# Altium schematic symbol library CM3Board_V1I2.SCHLIB: 170 symbols (part 3 of 5)
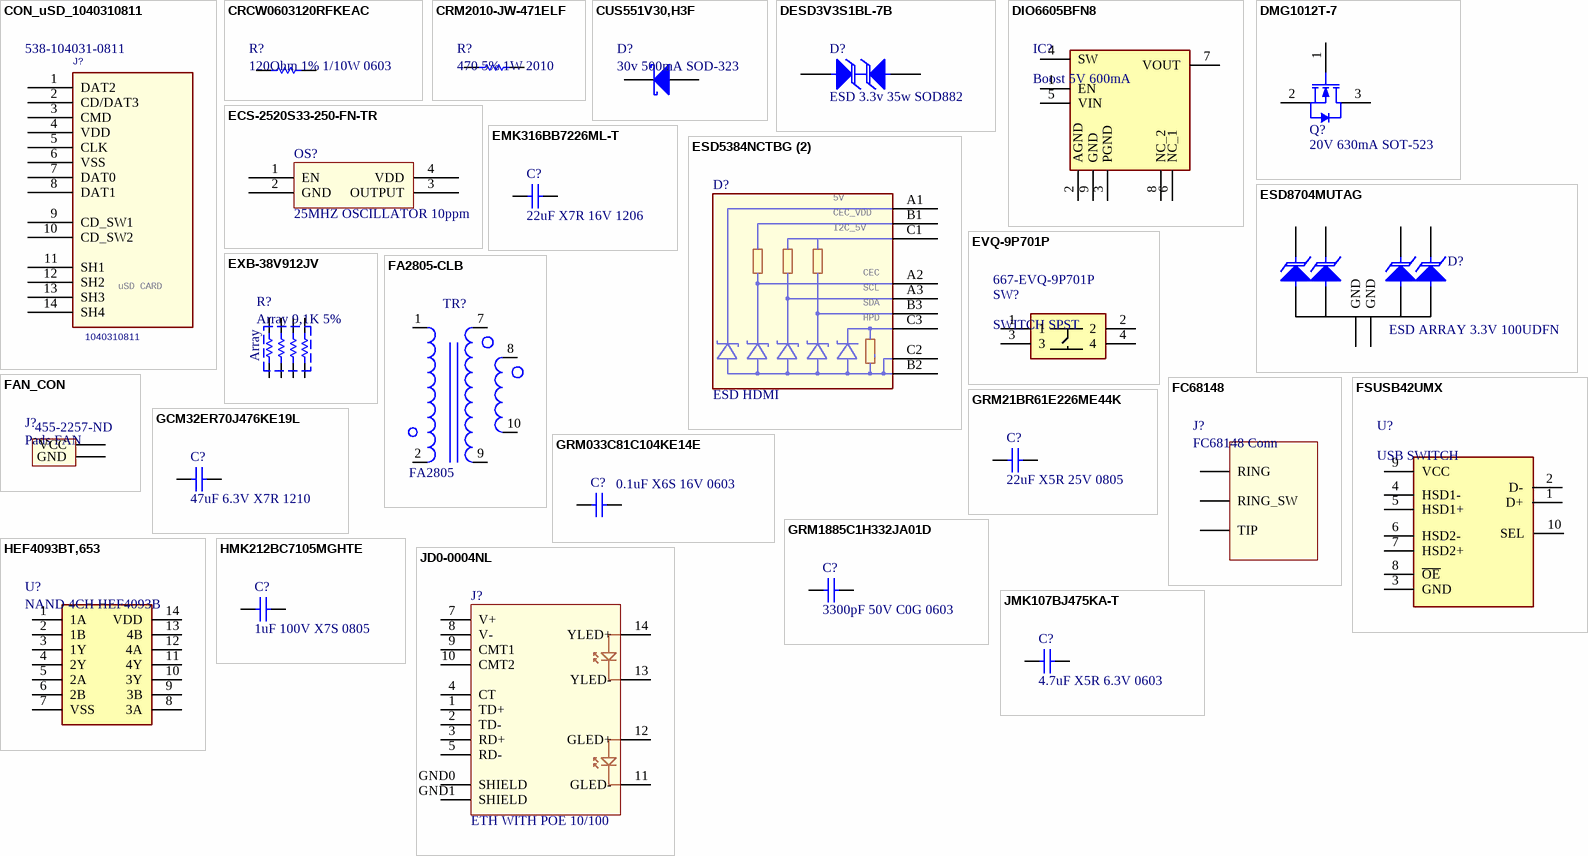
[diagram p7: symbols CON_uSD_1040310811 to JMK107BJ475KA-T]

## HEF4093BT,653
designator U?, comment NAND 4CH HEF4093B
IC GATE NAND 4CH 2-INP 14-SO; Manufacturer: NXP Semiconductors; Manufacturer Part Number: HEF4093BT,653; Output Current: 10mA; Min Supply Voltage: 3V; Max Supply Voltage: 15V; Propagation Delay: 185ns; High Level Output Current: -4.2mA; Low Level Output Current: 4.2mA; Number of Gates: 4; Number of Outputs: 1; Number of Inputs: 2; Quiescent Current: 1uA; Turn-On Delay Time: 80ns; Number of Input Lines: 8; Supplier 1: Mouser; RoHS: Yes; Stock 1: 16477; Pricing 1: 1 = 0,390000, 10 = 0,298000, 50 = 0,298000, 100 = 0,162000, 1000 = 0,121000, 10000 = 0,098000 (USD); Mount: Surface Mount; Case/Package: SO; Number of Pins: 14; Weight: 0.01lb; Min Operating Temperature: -40°C; Max Operating Temperature: 125°C; Logic Function: NAND; Packaging: Tape and Reel; Number of Elements: 4; Voltage: 15V; Package Quantity: 2500; Number of Circuits: 4; Number of Output Lines: 4; Length: 0.5inch; Height: 0.25inch; Width: 0.25inch; Radiation Hardening: No; Lead Free: Lead Free; REACH SVHC: No SVHC; ComponentLink1URL: https://datasheet.ciiva.com/1862/hef4093b-1862960.pdf?src-supplier=Digi-Key; ComponentLink1Description: https://datasheet.ciiva.com/1862/hef4093b-1862960.pdf?src-supplier=Digi-Key; ComponentLink2URL: https://datasheet.ciiva.com/22780/1695220-22780196.pdf?src-supplier=Farnell; ComponentLink2Description: https://datasheet.ciiva.com/22780/1695220-22780196.pdf?src-supplier=Farnell; ComponentLink3URL: https://datasheet.ciiva.com/46430/1760750-46430856.pdf?src-supplier=Element14; ComponentLink3Description: https://datasheet.ciiva.com/46430/1760750-46430856.pdf?src-supplier=Element14; ComponentLink4URL: https://datasheet.ciiva.com/15221/getdatasheetpartid-204086-15221739.pdf?src-supplier=Verical; ComponentLink4Description: https://datasheet.ciiva.com/15221/getdatasheetpartid-204086-15221739.pdf?src-supplier=Verical; ComponentLink5URL: https://datasheet.ciiva.com/33725/1695220-33725499.pdf?src-supplier=Farnell; ComponentLink5Description: https://datasheet.ciiva.com/33725/1695220-33725499.pdf?src-supplier=Farnell; ComponentLink6URL: https://datasheet.ciiva.com/1862/hef4093b-1862956.pdf?src-supplier=Digi-Key; ComponentLink6Description: https://datasheet.ciiva.com/1862/hef4093b-1862956.pdf?src-supplier=Digi-Key; Supplier Part Number 1: 771-HEF4093BTD-T
footprint SOIC127P600X175-14N
pins: 1 1A, 2 1B, 3 1Y, 4 2Y, 5 2A, 6 2B, 7 VSS (power), 8 3A, 9 3B, 10 3Y, 11 4Y, 12 4A, 13 4B, 14 VDD (power)

## HMK212BC7105MGHTE
designator C?, comment 1uF 100V X7S 0805
Condensadores de cerámica multicapa (MLCC- SMD/SMT) 0805 100V 1uF 20% X7S; Manufacturer: Taiyo Yuden; Manufacturer Part Number: HMK212BC7105MGHTE; Supplier 1: Mouser; Stock 1: 2234; Pricing 1: 1=0.33, 10=0.219, 50=0.219, 100=0.169, 1000=0.127, 10000=0.097 (USD); Supplier Part Number 1: 963-HMK212BC7105MGHT
footprint C 0805/2012
pins: 1, 2

## JD0-0004NL
designator J?, comment ETH WITH POE 10/100
1 Port RJ45 Magjack Connector Through Hole 10/100 Base-TX; Manufacturer: Pulse Electronics; Manufacturer Part Number: JD0-0004NL; Number of Ports: 1; Shielding: Shielded; Direction: Down; Number of Cores per Jack: 5; Supplier 1: Mouser; Stock 1: 755; Pricing 1: 1=6.2, 10=5.17, 50=5.17, 100=3.99, 1000=3.64, 10000=3.64 (USD); Mount: Through Hole; Color: Green,Yellow; Contact Material: Copper Alloy; Contact Plating: Gold; Housing Material: Thermoplastic; Min Operating Temperature: 0°C; Max Operating Temperature: 70°C; Packaging: Tray; Connector Type: RJ45; Number of Rows: 1; Termination: Solder; Supplier Part Number 1: 673-JD0-0004NL
footprint RJ45_TRAFO_POE_LEDS
pins: 1 TD+, 2 TD-, 3 RD+, 4 CT, 5 RD-, 7 V+, 8 V-, 9 CMT1, 10 CMT2, 11 GLED-, 12 GLED+, 13 YLED-, 14 YLED+, GND0 SHIELD, GND1 SHIELD

## JMK107BJ475KA-T
designator C?, comment 4.7uF X5R 6.3V 0603
CAP CER 4.7UF 6.3V X5R 0603; Manufacturer: Taiyo Yuden; Manufacturer Part Number: JMK107BJ475KA-T; Tolerance: 10%; Supplier 1: Mouser; Stock 1: 11441; Pricing 1: 1=0.14, 10=0.048, 50=0.048, 100=0.033, 1000=0.022, 10000=0.022 (USD); Mount: Surface Mount; Case/Package: 0603; Case Code (Metric): 1608; Case Code (Imperial): 0603; Contact Plating: Nickel; Min Operating Temperature: -55°C; Max Operating Temperature: 85°C; Capacitance: 4.7uF; Packaging: Tape and Reel; Dielectric: X5R; Voltage Rating (DC): 6.3V; Package Quantity: 1; Voltage Rating: 6.3V; Termination: SMD/SMT; Composition: Ceramic; Length: 1.6mm; Height: 0.8mm; Width: 0.031inch; Depth: 0.8mm; Thickness: 0.035inch; Radiation Hardening: No; Lead Free: Lead Free; Halogen Free: Halogen Free; REACH SVHC: Unknown; ComponentLink1URL: https://www.yuden.co.jp/productdata/catalog/mlcc_all_e.pdf; ComponentLink1Description: https://www.yuden.co.jp/productdata/catalog/mlcc_all_e.pdf; ComponentLink2URL: https://www.verical.com/server-webapp/html/getDatasheet?partID=637447; ComponentLink2Description: https://www.verical.com/server-webapp/html/getDatasheet?partID=637447; ComponentLink3URL: http://www.onlinecomponents.com/productFiles/mf-TAI/52jmk107bj475ka-t.pdf; ComponentLink3Description: http://www.onlinecomponents.com/productFiles/mf-TAI/52jmk107bj475ka-t.pdf; ComponentLink4URL: http://www.farnell.com/datasheets/1481447.pdf; ComponentLink4Description: http://www.farnell.com/datasheets/1481447.pdf; ComponentLink5URL: http://www.mouser.com/ds/2/396/mlcc_all_e-541559.pdf; ComponentLink5Description: http://www.mouser.com/ds/2/396/mlcc_all_e-541559.pdf; Supplier Part Number 1: 963-JMK107BJ475KA-T
footprint C 0603/1608
pins: 1, 2

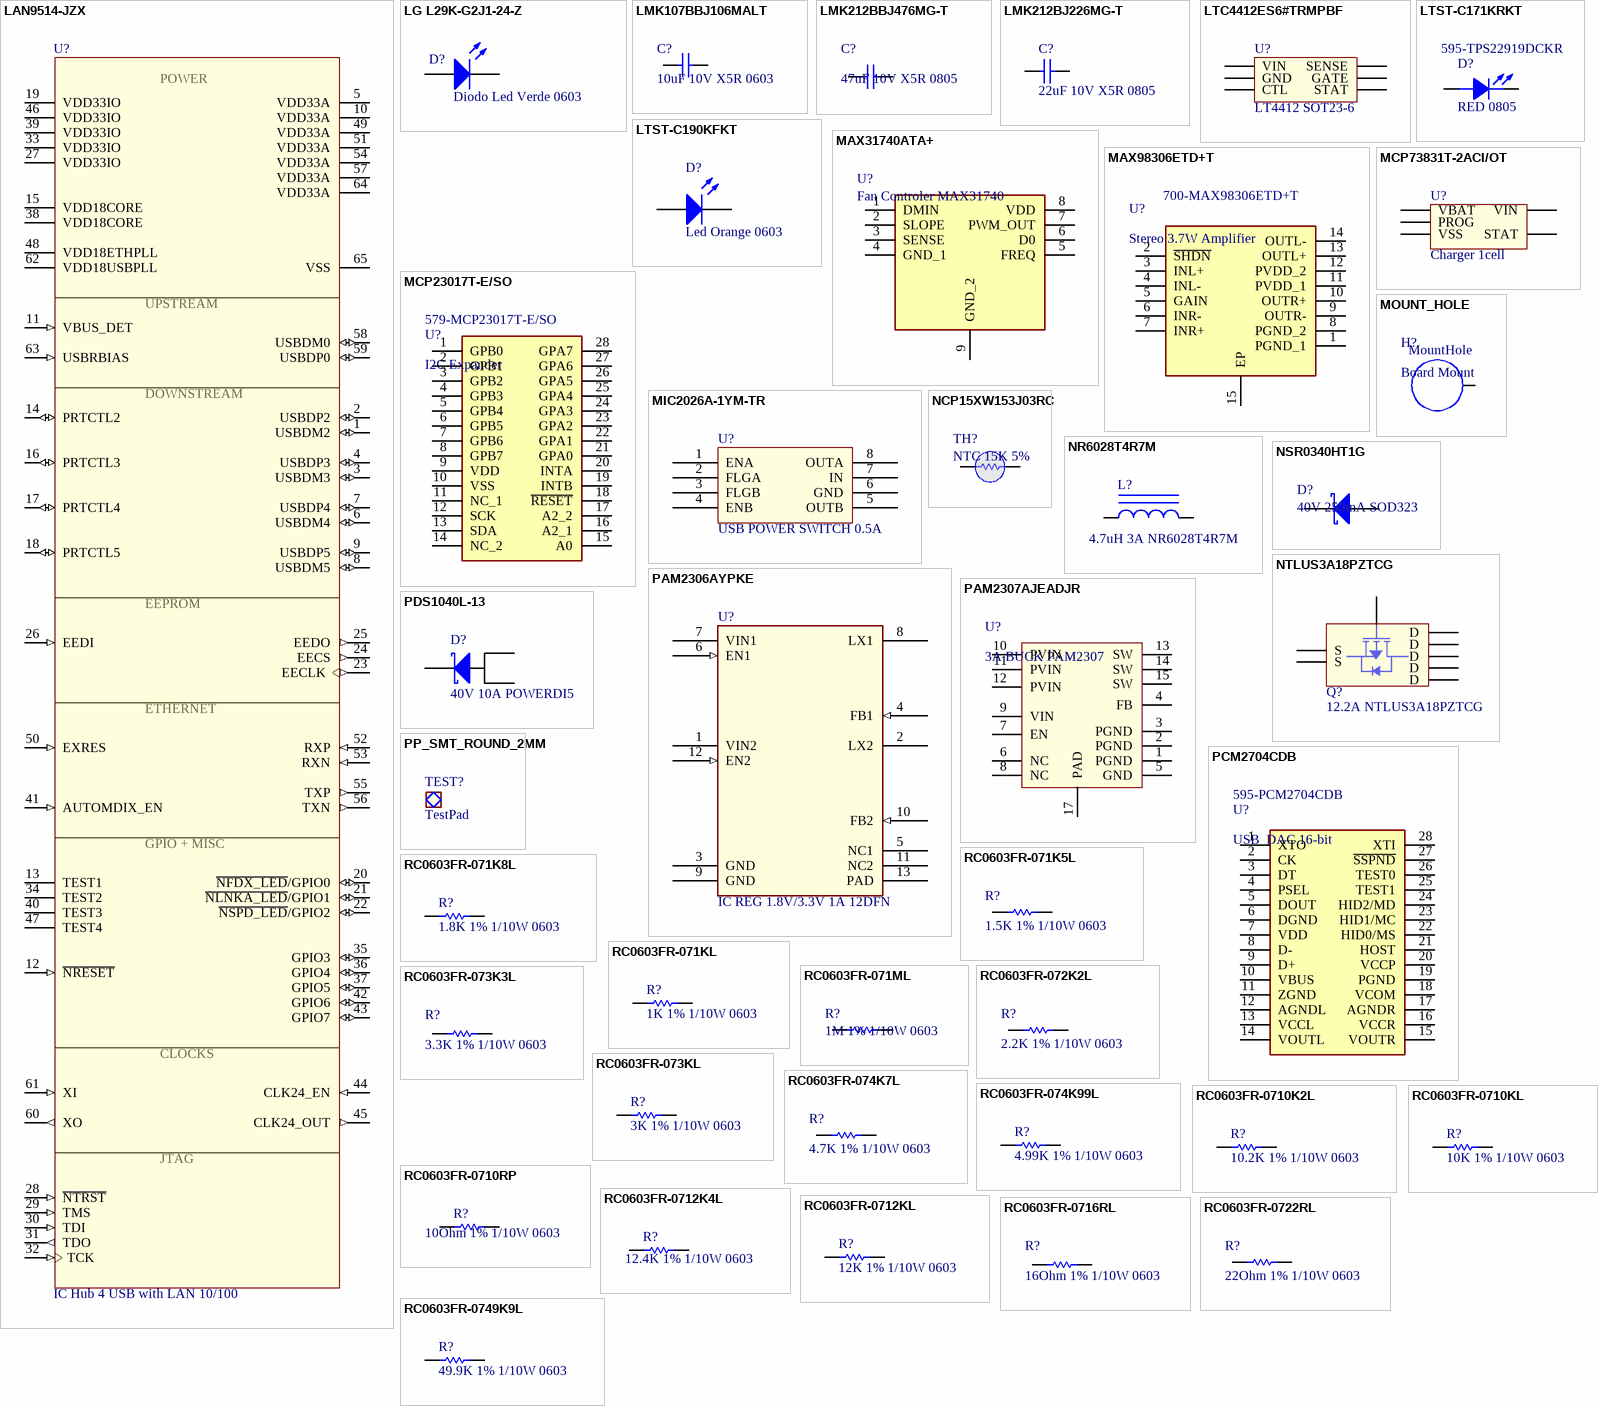
[diagram p3: symbols LAN9514-JZX to RC0603FR-0749K9L]

## LAN9514-JZX
designator U?, comment IC Hub 4 USB with LAN 10/100
USB Interface IC USB 4 Port Hub Int 10/100 Ethernet; Manufacturer: Microchip; Manufacturer Part Number: LAN9514-JZX; Operating Supply Current: 288mA; Min Supply Voltage: 3V; Max Supply Voltage: 3.6V; Operating Supply Voltage: 3.3V; Data Rate: 1.5Mbps; Max Power Dissipation: 951mW; Number of Ports: 5; Supplier 1: Mouser; Stock 1: 1024; Pricing 1: 1=5.7, 10=5.62, 50=4.75, 100=4.32, 1000=4.32, 10000=4.32 (USD); Case/Package: QFN; Number of Pins: 64; Weight: 0.007277oz; Contact Plating: Matte,Tin; Min Operating Temperature: 0°C; Max Operating Temperature: 70°C; Packaging: Tray; Package Quantity: 260; Interface: USB; Length: 9.1mm; Height: 0.95mm; Width: 9.1mm; Radiation Hardening: No; REACH SVHC: No SVHC; Lead Free: Lead Free; ComponentLink1URL: http://uk.rs-online.com/webdocs/11a5/0900766b811a553b.pdf; ComponentLink1Description: http://uk.rs-online.com/webdocs/11a5/0900766b811a553b.pdf; ComponentLink2URL: http://www.farnell.com/datasheets/1686386.pdf; ComponentLink2Description: http://www.farnell.com/datasheets/1686386.pdf; ComponentLink3URL: http://www1.futureelectronics.com/doc/MICROCHIP/LAN9514-JZX.pdf; ComponentLink3Description: http://www1.futureelectronics.com/doc/MICROCHIP/LAN9514-JZX.pdf; ComponentLink4URL: http://www.produktinfo.conrad.com/datenblaetter/650000-674999/651385-da-01-en-IC_E__CTRLR_LAN9514_JZX_QFN_64__9X9__MCP.pdf; ComponentLink4Description: http://www.produktinfo.conrad.com/datenblaetter/650000-674999/651385-da-01-en-IC_E__CTRLR_LAN9514_JZX_QFN_64__9X9__MCP.pdf; Supplier Part Number 1: 886-LAN9514-JZX
footprint QFN50P900X900X100-65N730X730
pins: 1 USBDM2 (io), 2 USBDP2 (io), 3 USBDM3 (io), 4 USBDP3 (io), 5 VDD33A (power), 6 USBDM4 (io), 7 USBDP4 (io), 8 USBDM5 (io), 9 USBDP5 (io), 10 VDD33A (power), 11 VBUS_DET (in), 12 ~{NRESET} (in), 13 TEST1, 14 PRTCTL2 (io), 15 VDD18CORE (power), 16 PRTCTL3 (io), 17 PRTCTL4 (io), 18 PRTCTL5 (io), 19 VDD33IO (power), 20 ~{NFDX_LED}/GPIO0 (io), 21 ~{NLNKA_LED}/GPIO1 (io), 22 ~{NSPD_LED}/GPIO2 (io), 23 EECLK (out), 24 EECS (out), 25 EEDO (out), 26 EEDI (in), 27 VDD33IO (power), 28 ~{NTRST} (in), 29 TMS (in), 30 TDI (in), 31 TDO (out), 32 TCK (in), 33 VDD33IO (power), 34 TEST2, 35 GPIO3 (io), 36 GPIO4 (io), 37 GPIO5 (io), 38 VDD18CORE (power), 39 VDD33IO (power), 40 TEST3, 41 AUTOMDIX_EN (in), 42 GPIO6 (io), 43 GPIO7 (io), 44 CLK24_EN (in), 45 CLK24_OUT (out), 46 VDD33IO (power), 47 TEST4, 48 VDD18ETHPLL (power), 49 VDD33A (power), 50 EXRES (in), 51 VDD33A (power), 52 RXP (in), 53 RXN (in), 54 VDD33A (power), 55 TXP (out), 56 TXN (out), 57 VDD33A (power), 58 USBDM0 (io), 59 USBDP0 (io), 60 XO (out), 61 XI (in), 62 VDD18USBPLL (power), 63 USBRBIAS (in), 64 VDD33A (power), 65 VSS (power)
text: POWER; UPSTREAM; DOWNSTREAM; EEPROM; ETHERNET; GPIO + MISC; CLOCKS; JTAG

## LG L29K-G2J1-24-Z
designator D?, comment Diodo Led Verde 0603
LED GREEN DIFFUSED 0603 SMD; Manufacturer: OSRAM Opto Semiconductors Inc.; Manufacturer Part Number: LG L29K-G2J1-24-Z; Lens Color: White; Millicandela Rating: 3.92mcd; Lens Style/Size: Rectangle with Flat Top, 1.30mm x 0.80mm; Voltage - Forward (Vf) (Typ): 1.7V; Current - Test: 2mA; Viewing Angle: 160°; Wavelength - Dominant: 570nm; Wavelength - Peak: 572nm; Supplier 1: Digi-Key; RoHS: RoHS Compliant; Category: Optoelectronics; Stock 1: 595550; Pricing 1: 1=0.48, 10=0.343, 25=0.28, 100=0.2238, 250=0.18888, 500=0.16088, 1000=0.1259, 2500=0.11541 (EUR); Packaging: Cut Tape (CT); Part Status: Active; Color: Green; Lens Transparency: Diffused; Mounting Type: Surface Mount; Features: -; Package / Case: 0603 (1608 Metric); Supplier Device Package: 0603; Size / Dimension: 1.70mm L x 0.80mm W; Height (Max): 0.65mm; ComponentLink1URL: https://dammedia.osram.info/media/resource/hires/osram-dam-2493945/LG%20L29K.pdf; ComponentLink1Description: https://dammedia.osram.info/media/resource/hires/osram-dam-2493945/LG%20L29K.pdf; Supplier Part Number 1: 475-2709-1-ND
footprint LED 0603/1608
pins: 1 K, 2 A

## LMK107BBJ106MALT
designator C?, comment 10uF 10V X5R 0603
CAP CER 10UF 10V X5R 0603; Manufacturer: Taiyo Yuden; Manufacturer Part Number: LMK107BBJ106MALT; Tolerance: 20%; Supplier 1: Mouser; RoHS: Yes; Stock 1: 340269; Pricing 1: 1 = 0,21000, 10 = 0,14500, 50 = 0,14500, 100 = 0,07300, 1000 = 0,04400, 10000 = 0,03300 (USD); Mount: Surface Mount; Case/Package: 0603; Case Code (Imperial): 0603; Case Code (Metric): 1608; Min Operating Temperature: -55°C; Max Operating Temperature: 85°C; Packaging: Tape and Reel; Capacitance: 10uF; Package Quantity: 1; Voltage Rating: 10V; Voltage Rating (DC): 10V; Dielectric: X5R; Termination: SMD/SMT; Composition: Ceramic; Voltage: 10V; Length: 1.6mm; Height: 0.8mm; Width: 0.8mm; Thickness: 0.035inch; Depth: 0.8mm; Radiation Hardening: No; REACH SVHC: Unknown; Lead Free: Lead Free; ComponentLink1URL: https://datasheet.ciiva.com/11596/lmk107bbj106malt-ss-11596989.pdf?src-supplier=Avnet; ComponentLink1Description: https://datasheet.ciiva.com/11596/lmk107bbj106malt-ss-11596989.pdf?src-supplier=Avnet; ComponentLink2URL: https://datasheet.ciiva.com/26872/getdatasheetpartid-637524-26872634.pdf?src-supplier=Verical; ComponentLink2Description: https://datasheet.ciiva.com/26872/getdatasheetpartid-637524-26872634.pdf?src-supplier=Verical; Supplier Part Number 1: 963-LMK107BBJ106MALT
footprint C 0603/1608
pins: 1, 2

## LMK212BBJ476MG-T
designator C?, comment 47uF 10V X5R 0805
CAP CER 47UF 10V X5R 0805; Manufacturer: Taiyo Yuden; Manufacturer Part Number: LMK212BBJ476MG-T; Supplier 1: Mouser; RoHS: No; Stock 1: 77304; Pricing 1: 1 = 0,68000, 10 = 0,46400, 50 = 0,46400, 100 = 0,35700, 1000 = 0,26800, 10000 = 0,20400 (USD); Case/Package: 0805; ComponentLink1URL: http://ds.yuden.co.jp/TYCOMPAS/ut/detail.do?productNo=LMK212BBJ476MG-T&fileName=LMK212BBJ476MG-T_SS&mode=specSheetDownload&src-supplier=Digi-Key; ComponentLink1Description: http://ds.yuden.co.jp/TYCOMPAS/ut/detail.do?productNo=LMK212BBJ476MG-T&fileName=LMK212BBJ476MG-T_SS&mode=specSheetDownload&src-supplier=Digi-Key; ComponentLink2URL: http://ds.yuden.co.jp/TYCOMPAS/ut/detail.do?productNo=LMK212BBJ476MG-T&amp;fileName=LMK212BBJ476MG-T_SS&amp;mode=specSheetDownload&src-supplier=Digi-Key; ComponentLink2Description: http://ds.yuden.co.jp/TYCOMPAS/ut/detail.do?productNo=LMK212BBJ476MG-T&amp;fileName=LMK212BBJ476MG-T_SS&amp;mode=specSheetDownload&src-supplier=Digi-Key; Supplier Part Number 1: 963-LMK212BBJ476MG-T
footprint C 0805/2012
pins: 1, 2

## LMK212BJ226MG-T
designator C?, comment 22uF 10V X5R 0805
CAP CER 22UF 10V X5R 0805; Manufacturer: Taiyo Yuden; Manufacturer Part Number: LMK212BJ226MG-T; Tolerance: 20%; Supplier 1: Mouser; Stock 1: 19795; Pricing 1: 1=0.34, 10=0.178, 50=0.178, 100=0.132, 1000=0.115, 10000=0.099 (USD); Mount: Surface Mount; Case/Package: 0805; Number of Pins: 2; Case Code (Metric): 2012; Case Code (Imperial): 0805; Min Operating Temperature: -55°C; Max Operating Temperature: 85°C; Packaging: Tape and Reel; Capacitance: 22uF; Dielectric: X5R; Voltage Rating (DC): 10V; Voltage Rating: 10V; Package Quantity: 1; Termination: SMD/SMT; Composition: Ceramic; Length: 2mm; Height: 1.25mm; Depth: 1.25mm; Width: 0.049inch; Thickness: 0.053inch; Radiation Hardening: No; REACH SVHC: Unknown; ComponentLink1URL: https://www.yuden.co.jp/productdata/catalog/mlcc_all_e.pdf?src-supplier=Onlinecomponents.com; ComponentLink1Description: https://www.yuden.co.jp/productdata/catalog/mlcc_all_e.pdf?src-supplier=Onlinecomponents.com; ComponentLink2URL: https://www.yuden.co.jp/productdata/catalog/mlcc_all_e.pdf?src-supplier=Digi-Key; ComponentLink2Description: https://www.yuden.co.jp/productdata/catalog/mlcc_all_e.pdf?src-supplier=Digi-Key; ComponentLink3URL: https://www.yuden.co.jp/productdata/catalog/mlcc_all_e.pdf?src-supplier=Mouser; ComponentLink3Description: https://www.yuden.co.jp/productdata/catalog/mlcc_all_e.pdf?src-supplier=Mouser; ComponentLink4URL: http://www.farnell.com/datasheets/1910934.pdf?src-supplier=Element14; ComponentLink4Description: http://www.farnell.com/datasheets/1910934.pdf?src-supplier=Element14; ComponentLink5URL: https://www.yuden.co.jp/productdata/catalog/mlcc_all_e.pdf?src-supplier=Verical; ComponentLink5Description: https://www.yuden.co.jp/productdata/catalog/mlcc_all_e.pdf?src-supplier=Verical; ComponentLink6URL: https://www.yuden.co.jp/productdata/catalog/mlcc_all_e.pdf?src-supplier=Avnet; ComponentLink6Description: https://www.yuden.co.jp/productdata/catalog/mlcc_all_e.pdf?src-supplier=Avnet; Supplier Part Number 1: 963-LMK212BJ226MG-T
footprint C 0805/2012
pins: 1, 2

## LTC4412ES6#TRMPBF
designator U?, comment LT4412 SOT23-6
LINEAR TECHNOLOGY         LTC4412ES6#TRMPBF            IC, POWER PATH CONTROLLER, TSOT23-6; Manufacturer: Analog Devices / Linear Technology; Min Supply Voltage: 2.5V; Max Supply Voltage: 28V; Number of Channels: 1; Turn-On Delay Time: 110us; Supplier 1: Mouser; Manufacturer Part Number: LTC4412ES6#TRMPBF; Stock 1: 2730; Pricing 1: 1=3.25, 10=3.01, 50=2.9, 100=2.9, 1000=1.95, 10000=1.95 (USD); Case/Package: TSOT; Number of Pins: 6; Min Operating Temperature: -40°C; Max Operating Temperature: 85°C; Number of Outputs: 1; Package Quantity: 500; Packaging: Tape and Reel; Length: 2.9mm; Height: 0.9mm; Width: 1.75mm; Radiation Hardening: No; REACH SVHC: No SVHC; Lead Free: Lead Free; ComponentLink1URL: http://www.jameco.com/Jameco/Products/ProdDS/1759983.pdf?src-supplier=Jameco; ComponentLink1Description: http://www.jameco.com/Jameco/Products/ProdDS/1759983.pdf?src-supplier=Jameco; ComponentLink2URL: http://www.farnell.com/datasheets/85445.pdf?src-supplier=Newark; ComponentLink2Description: http://www.farnell.com/datasheets/85445.pdf?src-supplier=Newark; ComponentLink3URL: http://www.linear.com/docs/44087?src-supplier=Digi-Key; ComponentLink3Description: http://www.linear.com/docs/44087?src-supplier=Digi-Key; ComponentLink4URL: http://www.farnell.com/datasheets/1898070.pdf?src-supplier=Farnell; ComponentLink4Description: http://www.farnell.com/datasheets/1898070.pdf?src-supplier=Farnell; ComponentLink5URL: https://www.verical.com/server-webapp/html/getDatasheet?partID=369083&src-supplier=Verical; ComponentLink5Description: https://www.verical.com/server-webapp/html/getDatasheet?partID=369083&src-supplier=Verical; ComponentLink6URL: http://datasheet.iiic.cc/linear_technology/LTC4412ES6_TRMPBF.pdf?src-supplier=IIIC; ComponentLink6Description: http://datasheet.iiic.cc/linear_technology/LTC4412ES6_TRMPBF.pdf?src-supplier=IIIC; Supplier Part Number 1: 584-LTC4412ES6TRMPBF
footprint SOT-23-6 (SOT23, 3-Leads, Body 2.92x1.3mm, Pitch 0.95mm)
pins: 1 VIN, 2 GND, 3 CTL, 4 STAT, 5 GATE, 6 SENSE

## LTST-C171KRKT
designator D?, comment RED 0805  Supplier Part Number 2: 595-TPS22919DCKR
LED RED CLEAR 0805 SMD; Manufacturer: Lite-On Inc.; Manufacturer Part Number: LTST-C171KRKT; Lens Color: Colorless; Millicandela Rating: 54mcd; Lens Style/Size: Rectangle with Flat Top, 1.40mm x 1.25mm; Voltage - Forward (Vf) (Typ): 2V; Current - Test: 20mA; Viewing Angle: 130°; Wavelength - Dominant: 631nm; Wavelength - Peak: 639nm; Supplier 1: Digi-Key; RoHS: RoHS Compliant; Category: Optoelectronics; Stock 1: 194263; Pricing 1: 1=0.26, 10=0.188, 25=0.1384, 100=0.099, 250=0.06728, 500=0.05938, 1000=0.04651 (EUR); Packaging: Cut Tape (CT); Part Status: Active; Color: Red; Lens Transparency: Clear; Mounting Type: Surface Mount; Features: -; Package / Case: 0805 (2012 Metric); Size / Dimension: 2.00mm L x 1.25mm W; Height (Max): 0.80mm; ComponentLink1URL: http://optoelectronics.liteon.com/upload/download/DS22-2000-109/LTST-C171KRKT.pdf; ComponentLink1Description: http://optoelectronics.liteon.com/upload/download/DS22-2000-109/LTST-C171KRKT.pdf; Supplier Part Number 1: 160-1427-1-ND; Supplier 2: Mouser; Stock 2: 0; Pricing 2: 1=0.46, 10=0.35, 50=0.35, 100=0.19, 1000=0.143, 10000=0.115 (USD); ComponentLink2URL: https://octopart.com/click/track?ak=2673a2b2&ct=datasheets&sig=0201e74&at=physicalpart&sid=370&ppid=96189199&hlid=26753426&src-supplier=TI+store; ComponentLink2Description: https://octopart.com/click/track?ak=2673a2b2&ct=datasheets&sig=0201e74&at=physicalpart&sid=370&ppid=96189199&hlid=26753426&src-supplier=TI+store; ComponentLink3URL: http://sigma.octopart.com/49249328/technical_drawing/Texas-Instruments-TPS22919DCKR.pdf?src-supplier=TI+store; ComponentLink3Description: http://sigma.octopart.com/49249328/technical_drawing/Texas-Instruments-TPS22919DCKR.pdf?src-supplier=TI+store
footprint LED 0603/1608 RED
pins: 1 CATHODE, 2 ANODE

## LTST-C190KFKT
designator D?, comment Led Orange 0603
LED ORANGE CLEAR CHIP SMD; Manufacturer: Lite-On Inc.; Manufacturer Part Number: LTST-C190KFKT; Configuration: Standard; Lens Color: Colorless; Millicandela Rating: 90mcd; Lens Style: Rectangle with Flat Top; Lens Size: 1.10mm x 0.80mm; Voltage - Forward (Vf) (Typ): 2V; Current - Test: 20mA; Viewing Angle: 130°; Wavelength - Dominant: 605nm; Wavelength - Peak: 611nm; Supplier 1: Digi-Key; RoHS: RoHS Compliant; Category: Optoelectronics; Stock 1: 169559; Pricing 1: 1=0.2, 10=0.144, 25=0.106, 100=0.0758, 250=0.05148, 500=0.04544, 1000=0.03559 (GBP); Packaging: Cut Tape (CT); Part Status: Active; Color: Orange; Lens Transparency: Clear; Mounting Type: Surface Mount; Features: -; Package / Case: 0603 (1608 Metric); Supplier Device Package: Chip LED; Size / Dimension: 1.60mm L x 0.80mm W; Height (Max): 0.90mm; ComponentLink1URL: http://optoelectronics.liteon.com/upload/download/DS-22-99-0186/LTST-C190KFKT.PDF; ComponentLink1Description: http://optoelectronics.liteon.com/upload/download/DS-22-99-0186/LTST-C190KFKT.PDF; Supplier Part Number 1: 160-1434-1-ND
footprint LED 0603/1608
pins: 1 A, 2 K

## MAX31740ATA+
designator U?, comment Fan Controler MAX31740
Controladores y unidades para motores / movimiento / ignición Fan-Speed Controller; Manufacturer: Maxim; Manufacturer Part Number: MAX31740ATA+; Nominal Supply Current: 750uA; Number of Outputs: 1; Operating Supply Voltage: 3.3V; Min Supply Voltage: 3V; Max Supply Voltage: 5.5V; Supplier 1: Mouser; Stock 1: 1332; Pricing 1: 1=1.08, 10=1.02, 50=0.772, 100=0.712, 1000=0.652, 10000=0.652 (USD); Mount: Surface Mount; Number of Pins: 8; Min Operating Temperature: -40°C; Max Operating Temperature: 125°C; Package Quantity: 2500; Packaging: Rail/Tube; REACH SVHC: Unknown; ComponentLink1URL: http://www.mouser.com/ds/2/256/MAX31740-253424.pdf?src-supplier=Mouser; ComponentLink1Description: http://www.mouser.com/ds/2/256/MAX31740-253424.pdf?src-supplier=Mouser; Supplier Part Number 1: 700-MAX31740ATA+
footprint SON50P200X300X80-9N
pins: 1 DMIN, 2 SLOPE, 3 SENSE, 4 GND_1, 5 FREQ, 6 D0, 7 PWM_OUT, 8 VDD, 9 GND_2

## MAX98306ETD+T
designator U?, comment Stereo 3.7W Amplifier  Supplier Part Number 1: 700-MAX98306ETD+T
IC AMP AUDIO 3.7W STER D 14TDFN; Manufacturer: Maxim; Manufacturer Part Number: MAX98306ETD+T; Voltage Gain: 18dB; Min Supply Voltage: 2.6V; Max Supply Voltage: 5.5V; Power Supply Rejection Ratio (PSRR): 95dB; Common Mode Rejection Ratio: 79dB; Max Power Dissipation: 1.9512W; Nominal Supply Current: 2mA; Number of Channels: 2; Max Output Current: 800mA; Load Impedance: 3R; Supplier 1: Mouser; RoHS: Yes; Stock 1: 6297; Pricing 1: 1 = 0,95000, 10 = 0,94600, 50 = 0,58300, 100 = 0,58300, 1000 = 0,54900, 10000 = 0,54900 (USD); Mount: Surface Mount; Number of Pins: 14; Contact Plating: Tin; Min Operating Temperature: -40°C; Max Operating Temperature: 85°C; Output Power: 3.7W; Packaging: Tape and Reel; Package Quantity: 1; Max Output Power: 3.7W; Radiation Hardening: No; REACH SVHC: Unknown; ComponentLink1URL: https://datasheet.ciiva.com/1789/max98306-1789856.pdf?src-supplier=Digi-Key; ComponentLink1Description: https://datasheet.ciiva.com/1789/max98306-1789856.pdf?src-supplier=Digi-Key; ComponentLink2URL: https://datasheet.ciiva.com/4767/max98306-110463-4767529.pdf?src-supplier=Mouser; ComponentLink2Description: https://datasheet.ciiva.com/4767/max98306-110463-4767529.pdf?src-supplier=Mouser; ComponentLink3URL: https://datasheet.ciiva.com/1789/max98306-1789857.pdf?src-supplier=Digi-Key; ComponentLink3Description: https://datasheet.ciiva.com/1789/max98306-1789857.pdf?src-supplier=Digi-Key; ComponentLink4URL: https://datasheet.ciiva.com/1789/max98306-1789858.pdf?src-supplier=Digi-Key; ComponentLink4Description: https://datasheet.ciiva.com/1789/max98306-1789858.pdf?src-supplier=Digi-Key; ComponentLink5URL: https://datasheet.ciiva.com/2968/max98306-2968006.pdf?src-supplier=Avnet; ComponentLink5Description: https://datasheet.ciiva.com/2968/max98306-2968006.pdf?src-supplier=Avnet
footprint SON40P300X300X80-15N
pins: 1 PGND_1, 2 ~{SHDN}, 3 INL+, 4 INL-, 5 GAIN, 6 INR-, 7 INR+, 8 PGND_2, 9 OUTR-, 10 OUTR+, 11 PVDD_1, 12 PVDD_2, 13 OUTL+, 14 OUTL-, 15 EP

## MCP23017T-E/SO
designator U?, comment I2C Expander  Supplier Part Number 1: 579-MCP23017T-E/SO
IC I/O EXPANDER I2C 16B 28SOIC; Manufacturer: Microchip; Manufacturer Part Number: MCP23017T-E/SO; Number of Channels: 1; Operating Supply Voltage: 5.5V; Nominal Supply Current: 1mA; Number of I/Os: 16; Frequency: 1.7MHz; Supplier 1: Mouser; RoHS: Yes; Stock 1: 3441; Pricing 1: 1 = 1,23000, 10 = 1,21000, 50 = 1,03000, 100 = 0,93700, 1000 = 0,93700, 10000 = 0,93700 (USD); Case/Package: SOIC; Number of Pins: 28; Min Operating Temperature: -40°C; Max Operating Temperature: 125°C; Interface: I2C; Packaging: Tape and Reel; Package Quantity: 1600; Max Frequency: 1.7MHz; Number of Bits: 16; Lead Free: Lead Free; ComponentLink1URL: https://datasheet.ciiva.com/12267/21952b-12267564.pdf?src-supplier=Mouser; ComponentLink1Description: https://datasheet.ciiva.com/12267/21952b-12267564.pdf?src-supplier=Mouser; ComponentLink2URL: https://datasheet.ciiva.com/16617/21952b-16617631.pdf?src-supplier=Avnet+Europe; ComponentLink2Description: https://datasheet.ciiva.com/16617/21952b-16617631.pdf?src-supplier=Avnet+Europe; ComponentLink3URL: https://datasheet.ciiva.com/1780/21952b-1780728.pdf?src-supplier=Digi-Key; ComponentLink3Description: https://datasheet.ciiva.com/1780/21952b-1780728.pdf?src-supplier=Digi-Key; ComponentLink4URL: https://datasheet.ciiva.com/8128/21952b-8128585.pdf?src-supplier=Avnet; ComponentLink4Description: https://datasheet.ciiva.com/8128/21952b-8128585.pdf?src-supplier=Avnet; ComponentLink5URL: https://datasheet.ciiva.com/16454/filehandler-aspxddocname-en023709-16454265.pdf?src-supplier=Future+Electronics; ComponentLink5Description: https://datasheet.ciiva.com/16454/filehandler-aspxddocname-en023709-16454265.pdf?src-supplier=Future+Electronics
footprint SOIC127P1030X265-28N
pins: 1 GPB0, 2 GPB1, 3 GPB2, 4 GPB3, 5 GPB4, 6 GPB5, 7 GPB6, 8 GPB7, 9 VDD, 10 VSS, 11 NC_1, 12 SCK, 13 SDA, 14 NC_2, 15 A0, 16 A2_1, 17 A2_2, 18 ~{RESET}, 19 INTB, 20 INTA, 21 GPA0, 22 GPA1, 23 GPA2, 24 GPA3, 25 GPA4, 26 GPA5, 27 GPA6, 28 GPA7

## MCP73831T-2ACI/OT
designator U?, comment Charger 1cell
MICROCHIP         MCP73831T-2ACI/OT             Single Cell Li Ion/Li Polymer Charge Management Controller in SOT-23-5 Package; Number of Cells: 1; Output Voltage: 4.2V; Max Supply Voltage: 6V; Min Supply Voltage: 3.75V; Output Current: 500mA; Max Output Voltage: 4.5V; Min Output Voltage: 4.168V; Max Power Dissipation: 1.54W; Drain to Source Resistance: 350mR; Voltage Rating: 4.534V; Supplier 1: Mouser; Manufacturer: Microchip; Manufacturer Part Number: MCP73831T-2ACI/OT; Stock 1: 26372; Pricing 1: 1=0.57, 10=0.568, 50=0.484, 100=0.432, 1000=0.432, 10000=0.432 (USD); Mount: Surface Mount; Case/Package: SOT-23; Number of Pins: 5; Weight: 0.00709oz; Contact Plating: Matte,Tin; Min Operating Temperature: -40°C; Max Operating Temperature: 85°C; Packaging: Tape and Reel; Max Charge Current: 500mA; Max Input Voltage: 6V; Number of Outputs: 1; Number of Channels: 1; Termination: SMD/SMT; Length: 0.122inch; Height: 0.051inch; Width: 0.071inch; Radiation Hardening: No; REACH SVHC: No SVHC; Lead Free: Lead Free; ComponentLink1URL: http://www.microchip.com/mymicrochip/filehandler.aspx?ddocname=en023833&src-supplier=Digi-Key; ComponentLink1Description: http://www.microchip.com/mymicrochip/filehandler.aspx?ddocname=en023833&src-supplier=Digi-Key; ComponentLink2URL: http://www.farnell.com/datasheets/630369.pdf?src-supplier=Element14; ComponentLink2Description: http://www.farnell.com/datasheets/630369.pdf?src-supplier=Element14; ComponentLink3URL: http://www.farnell.com/datasheets/2124927.pdf?src-supplier=Element14; ComponentLink3Description: http://www.farnell.com/datasheets/2124927.pdf?src-supplier=Element14; ComponentLink4URL: http://ww1.microchip.com/downloads/en/DeviceDoc/21984e.pdf?src-supplier=Avnet; ComponentLink4Description: http://ww1.microchip.com/downloads/en/DeviceDoc/21984e.pdf?src-supplier=Avnet; ComponentLink5URL: http://www.farnell.com/datasheets/2124927.pdf?src-supplier=Newark; ComponentLink5Description: http://www.farnell.com/datasheets/2124927.pdf?src-supplier=Newark; ComponentLink6URL: http://www.microchip.com/mymicrochip/filehandler.aspx?ddocname=en025112&src-supplier=Future+Electronics; ComponentLink6Description: http://www.microchip.com/mymicrochip/filehandler.aspx?ddocname=en025112&src-supplier=Future+Electronics; ComponentLink7URL: http://www.produktinfo.conrad.com/datenblaetter/650000-674999/651521-da-01-en-CONTR__MCP73831T_2ACI_OT_SOT_23_5_MCP.pdf?src-supplier=Conrad; ComponentLink7Description: http://www.produktinfo.conrad.com/datenblaetter/650000-674999/651521-da-01-en-CONTR__MCP73831T_2ACI_OT_SOT_23_5_MCP.pdf?src-supplier=Conrad; Supplier Part Number 1: 579-MCP73831T-2ACIOT
footprint SOT-23-5 (SOT23, 3-Leads, Body 2.92x1.3mm, Pitch 0.95mm)
pins: 1 STAT, 2 VSS, 3 VBAT, 4 VIN, 5 PROG

## MIC2026A-1YM-TR
designator U?, comment USB POWER SWITCH 0.5A
USB Power SW Hi Side/DIST Dual 5.5V 0.7A 8-Pin SOIC N T/R; Manufacturer: Microchip Micrel; Manufacturer Part Number: MIC2026A-1YM-TR; Number of Outputs: 2; Interface: On/Off; Max Output Current: 500mA; Fault Protection: Over Temperature; Output Configuration: High Side; Supplier 1: Mouser; Stock 1: 2554; Pricing 1: 1=0.79, 10=0.781, 50=0.659, 100=0.597, 1000=0.597, 10000=0.597 (USD); Mount: Surface Mount; Case/Package: SOIC; Number of Pins: 8; Min Operating Temperature: -40°C; Max Operating Temperature: 85°C; Packaging: Tape and Reel; Package Quantity: 2500; Lead Free: Lead Free; ComponentLink1URL: http://www.micrel.com/_PDF/mic2026.pdf; ComponentLink1Description: http://www.micrel.com/_PDF/mic2026.pdf; ComponentLink2URL: http://www.micrel.com/_PDF/mic2026a-76a.pdf; ComponentLink2Description: http://www.micrel.com/_PDF/mic2026a-76a.pdf; Supplier Part Number 1: 998-MIC2026A-1YMTR
footprint SOIC-8 (SOIC, 8-Leads, Body 4.9x3.9mm, Pitch 1.27mm, IPC Medium Density)
pins: 1 ENA, 2 FLGA, 3 FLGB, 4 ENB, 5 OUTB, 6 GND, 7 IN, 8 OUTA

## MOUNT_HOLE
designator H?, comment Board Mount
No component needed!
footprint MOUNT HOLE
pins: 1
text: MountHole

## NCP15XW153J03RC
designator TH?, comment NTC 15K 5%
Termistores NTC 15K OHM 5%; Manufacturer: Murata; Manufacturer Part Number: NCP15XW153J03RC; Resistance: 15kR; Power Rating: 100mW; Current Rating: 250uA; Accuracy: 3%; Supplier 1: Mouser; Stock 1: 18849; Pricing 1: 1=0.16, 10=0.138, 50=0.104, 100=0.091, 1000=0.07, 10000=0.053 (USD); Mount: Surface Mount; Case/Package: 0402; Number of Pins: 2; Case Code (Metric): 1005; Case Code (Imperial): 0402; Min Operating Temperature: -40°C; Max Operating Temperature: 125°C; Tolerance: 5%; Packaging: Tape and Reel; Package Quantity: 10000; Termination: SMD/SMT; Max Power Dissipation: 100mW; Length: 1mm; Height: 0.5mm; Depth: 0.5mm; Width: 500um; Radiation Hardening: No; Lead Free: Lead Free; ComponentLink1URL: http://search.murata.co.jp/Ceramy/image/img/w_hinm/L0770E.pdf?src-supplier=Avnet+Europe; ComponentLink1Description: http://search.murata.co.jp/Ceramy/image/img/w_hinm/L0770E.pdf?src-supplier=Avnet+Europe; ComponentLink2URL: http://www.murata.com/~/media/webrenewal/support/library/catalog/products/thermistor/ntc/r44e.ashx?src-supplier=Digi-Key; ComponentLink2Description: http://www.murata.com/~/media/webrenewal/support/library/catalog/products/thermistor/ntc/r44e.ashx?src-supplier=Digi-Key; Supplier Part Number 1: 81-NCP15XW153J03RC
pins: 1, 2

## NR6028T4R7M
designator L?, comment 4.7uH 3A NR6028T4R7M
FIXED IND 4.7UH 3A 40.3 MOHM SMD; Manufacturer: Taiyo Yuden; Core Material: Ferrite; Tolerance: 20%; Self Resonant Frequency: 39MHz; Saturation Current: 2.7A; Shielding: Shielded; DC Resistance (DCR): 40.3mR; Test Frequency: 100kHz; Supplier 1: Mouser; Manufacturer Part Number: NR6028T4R7M; Stock 1: 94966; Pricing 1: 1=0.35, 10=0.231, 50=0.231, 100=0.193, 1000=0.139, 10000=0.106 (USD); Mount: Surface Mount; Case/Package: 2424; Number of Pins: 2; Min Operating Temperature: -25°C; Max Operating Temperature: 120°C; Packaging: Tape and Reel; Inductance Tolerance: 20%; Package Quantity: 2000; Current Rating: 3A; Composition: Wirewound; Inductance: 4.7uh; Max DC Current: 3A; Termination: SMD/SMT; RMS Current (Irms): 3A; Length: 0.236inch; Height: 2.8mm; Width: 0.236inch; Height - Seated (Max): 0.11inch; Depth: 6.2mm; Radiation Hardening: No; REACH SVHC: Unknown; Halogen Free: Halogen Free; Lead Free: Lead Free; ComponentLink1URL: https://www.yuden.co.jp/productdata/catalog/wound04_e.pdf; ComponentLink1Description: https://www.yuden.co.jp/productdata/catalog/wound04_e.pdf; ComponentLink2URL: http://www.farnell.com/datasheets/2085513.pdf; ComponentLink2Description: http://www.farnell.com/datasheets/2085513.pdf; Supplier Part Number 1: 963-NR6028T4R7M
footprint NR6028 (TAIYO YUDEN)
pins: 1, 2

## NSR0340HT1G
designator D?, comment 40V 250mA SOD323
DIODE SCHOTTKY 40V 250MA SOD323; Manufacturer: ON Semiconductor; Manufacturer Part Number: NSR0340HT1G; Peak Reverse Current: 6uA; Forward Voltage: 590mV; Recovery Time: 3ns; Reverse Recovery Time: 5ns; Max Forward Surge Current (Ifsm): 1A; Element Configuration: Single; Supplier 1: Mouser; RoHS: Yes; Stock 1: 41641; Pricing 1: 1 = 0,23000, 10 = 0,15400, 50 = 0,15400, 100 = 0,06500, 1000 = 0,04400, 10000 = 0,03000 (USD); Case/Package: SOD-323-2; Number of Pins: 2; Contact Plating: Tin; Min Operating Temperature: -55°C; Max Operating Temperature: 150°C; Forward Current: 250mA; Package Quantity: 1; Packaging: Tape and Reel; Average Rectified Current: 250mA; Max Reverse Leakage Current: 6uA; Max Repetitive Reverse Voltage (Vrrm): 40V; Max Reverse Voltage (DC): 40V; Length: 1.8mm; Height: 1mm; Width: 1.35mm; Radiation Hardening: No; REACH SVHC: No SVHC; Lead Free: Lead Free; ComponentLink1URL: https://datasheet.ciiva.com/8293/nsr0340h-d-8293877.pdf?src-supplier=Avnet; ComponentLink1Description: https://datasheet.ciiva.com/8293/nsr0340h-d-8293877.pdf?src-supplier=Avnet; ComponentLink2URL: https://datasheet.ciiva.com/14831/nsr0340h-d-14831708.pdf?src-supplier=Arrow; ComponentLink2Description: https://datasheet.ciiva.com/14831/nsr0340h-d-14831708.pdf?src-supplier=Arrow; ComponentLink3URL: https://datasheet.ciiva.com/23818/nsr0340h-d-23818794.pdf?src-supplier=Newark; ComponentLink3Description: https://datasheet.ciiva.com/23818/nsr0340h-d-23818794.pdf?src-supplier=Newark; ComponentLink4URL: https://datasheet.ciiva.com/4715/nsr0340h-d-114314-4715166.pdf?src-supplier=Mouser; ComponentLink4Description: https://datasheet.ciiva.com/4715/nsr0340h-d-114314-4715166.pdf?src-supplier=Mouser; ComponentLink5URL: https://datasheet.ciiva.com/25949/nsr0340h-d-25949654.pdf?src-supplier=Avnet+Europe; ComponentLink5Description: https://datasheet.ciiva.com/25949/nsr0340h-d-25949654.pdf?src-supplier=Avnet+Europe; ComponentLink6URL: https://datasheet.ciiva.com/915/nsr0340h-d-915419.pdf?src-supplier=Digi-Key; ComponentLink6Description: https://datasheet.ciiva.com/915/nsr0340h-d-915419.pdf?src-supplier=Digi-Key; ComponentLink7URL: https://datasheet.ciiva.com/915/nsr0340h-d-915420.pdf?src-supplier=Digi-Key; ComponentLink7Description: https://datasheet.ciiva.com/915/nsr0340h-d-915420.pdf?src-supplier=Digi-Key; ComponentLink8URL: https://datasheet.ciiva.com/915/nsr0340h-d-915421.pdf?src-supplier=Digi-Key; ComponentLink8Description: https://datasheet.ciiva.com/915/nsr0340h-d-915421.pdf?src-supplier=Digi-Key; Supplier Part Number 1: 863-NSR0340HT1G
footprint SOD-323
pins: 1 K, 2 A

## NTLUS3A18PZTCG
designator Q?, comment 12.2A NTLUS3A18PZTCG
Trans MOSFET P-CH 20V 12.2A 6-Pin UDFN T/R; Manufacturer: ON Semiconductor; Rise Time: 15ns; Continuous Drain Current (ID): 5.1A; Rds On Max: 18mR; Input Capacitance: 2.24nF; Max Power Dissipation: 700mW; Turn-On Delay Time: 8.6ns; Turn-Off Delay Time: 150ns; Fall Time: 88ns; Gate to Source Voltage (Vgs): 8V; Element Configuration: Single; Number of Channels: 1; Drain to Source Breakdown Voltage: -20V; Drain to Source Resistance: 14.6mR; Supplier 1: Mouser; Manufacturer Part Number: NTLUS3A18PZTCG; Stock 1: 3827; Pricing 1: 1=0.48, 10=0.398, 50=0.398, 100=0.243, 1000=0.188, 10000=0.149 (USD); Number of Pins: 6; Min Operating Temperature: -55°C; Max Operating Temperature: 150°C; Packaging: Tape and Reel; Package Quantity: 3000; Radiation Hardening: No; Lead Free: Lead Free; ComponentLink1URL: http://www.onsemi.com/pub_link/Collateral/NTLUS3A18PZ-D.PDF?src-supplier=Avnet; ComponentLink1Description: http://www.onsemi.com/pub_link/Collateral/NTLUS3A18PZ-D.PDF?src-supplier=Avnet; Supplier Part Number 1: 863-NTLUS3A18PZTCG
footprint UDFN6 -2x2, 0.65P CASE 517BG-01 (CASE 517BG ON semiconductor)
pins: 1 D, 2 D, 3 G, 4 S, 5 D, 6 D, 7 S, 8 D

## PAM2306AYPKE
designator U?, comment IC REG 1.8V/3.3V 1A 12DFN
IC REG BCK 1.8V/3.3V 1A DL 12DFN; Manufacturer: Diodes Incorporated; Manufacturer Part Number: PAM2306AYPKE; Supplier 1: Digi-Key; RoHS: RoHS Compliant; Category: Integrated Circuits (ICs); Stock 1: 869; Pricing 1: 1=0.61, 10=0.541, 100=0.4143, 500=0.32756, 1000=0.26205 (EUR); Packaging: Cut Tape (CT); Part Status: Active; Mounting Type: Surface Mount; Package / Case: 12-WFDFN Exposed Pad; Supplier Device Package: 12-WDFN (3x3); ComponentLink1URL: https://www.diodes.com/assets/Datasheets/PAM2306.pdf; ComponentLink1Description: https://www.diodes.com/assets/Datasheets/PAM2306.pdf; Supplier Part Number 1: PAM2306AYPKEDICT-ND
footprint WDFM12L 3x3
pins: 1 VIN2 (power), 2 LX2, 3 GND (power), 4 FB1 (in), 5 NC1, 6 EN1 (in), 7 VIN1 (power), 8 LX1, 9 GND (power), 10 FB2 (in), 11 NC2, 12 EN2 (in), 13 PAD (power)

## PAM2307AJEADJR
designator U?, comment 3A BUCK PAM2307
IC REG BUCK ADJ 3A SYNC 16QFN; Manufacturer: Diodes; Manufacturer Part Number: PAM2307AJEADJR; Number of Outputs: 1; Output Voltage: 5.5V; Min Input Voltage: 2.5V; Efficiency: 95%; Min Output Voltage: 600mV; Switching Frequency: 1.5MHz; Synchronous Rectifier: Yes; Output Type: Adjustable; Output Configuration: Positive; Supplier 1: Mouser; RoHS: Yes; Stock 1: 2610; Pricing 1: 1 = 0,83000, 10 = 0,70000, 50 = 0,70000, 100 = 0,53800, 1000 = 0,37500, 10000 = 0,37500 (USD); Mount: Surface Mount; Case/Package: QFN; Number of Pins: 16; Weight: 0.002014oz; Min Operating Temperature: -40°C; Max Operating Temperature: 85°C; Max Output Current: 3A; Max Input Voltage: 5.5V; Package Quantity: 3000; Packaging: Tape and Reel; Max Output Voltage: 5.5V; Output Current: 3A; Operating Supply Voltage: 5.5V; Length: 3.1mm; Height: 0.55mm; Width: 3.1mm; Radiation Hardening: No; Lead Free: Lead Free; ComponentLink1URL: https://datasheet.ciiva.com/30477/0900766b81268c6c-30477461.pdf?src-supplier=RSComponents; ComponentLink1Description: https://datasheet.ciiva.com/30477/0900766b81268c6c-30477461.pdf?src-supplier=RSComponents; ComponentLink2URL: https://datasheet.ciiva.com/30032/pam2307-30032037.pdf?src-supplier=Avnet; ComponentLink2Description: https://datasheet.ciiva.com/30032/pam2307-30032037.pdf?src-supplier=Avnet; ComponentLink3URL: https://datasheet.ciiva.com/14940/pam2307-14940231.pdf?src-supplier=Digi-Key; ComponentLink3Description: https://datasheet.ciiva.com/14940/pam2307-14940231.pdf?src-supplier=Digi-Key; Supplier Part Number 1: 621-PAM2307AJEADJR
footprint QFN65P400X400X100-17N-D
pins: 1 PGND, 2 PGND, 3 PGND, 4 FB, 5 GND, 6 NC, 7 EN, 8 NC, 9 VIN, 10 PVIN, 11 PVIN, 12 PVIN, 13 SW, 14 SW, 15 SW, 17 PAD

## PCM2704CDB
designator U?, comment USB  DAC 16-bit  Supplier Part Number 1: 595-PCM2704CDB
DAC 2-CH Delta-Sigma 16-bit 28-Pin SSOP Tube; Manufacturer: Texas Instruments; Manufacturer Part Number: PCM2704CDB; Number of Channels: 2; Max Supply Voltage: 5.25V; Min Supply Voltage: 3V; Output Type: Voltage; Number of DAC Channels: 0; Resolution: 16b; Conversion Rate: 48KS/s; Signal to Noise Ratio (SNR): 98dB; Operating Supply Voltage: 5V; Max Power Dissipation: 158mW; Sampling Rate: 48000S/s; Supply Type: Analog; Output Voltage: 550mV; Operating Supply Current: 30mA; Polarity: Bipolar; Number of Bits: 16; Max Frequency: 12MHz; Supplier 1: Mouser; RoHS: Yes; Stock 1: 67; Pricing 1: 1 = 8,54000, 10 = 7,72000, 50 = 7,14000, 100 = 6,39000, 1000 = 4,85000, 10000 = 4,85000 (USD); Mount: Surface Mount; Case/Package: SSOP; Number of Pins: 28; Weight: 0.010229oz; Min Operating Temperature: -25°C; Max Operating Temperature: 85°C; Packaging: Bulk; Package Quantity: 50; Interface: USB; Number of Analog Inputs: 0; Number of Analog Outputs: 2; Number of Converters: 2; Length: 10.5mm; Height: 1.95mm; Width: 5.6mm; Radiation Hardening: No; Lead Free: Lead Free; REACH SVHC: No SVHC; ComponentLink1URL: https://datasheet.ciiva.com/14255/sbfs036a-14255040.pdf?src-supplier=Avnet; ComponentLink1Description: https://datasheet.ciiva.com/14255/sbfs036a-14255040.pdf?src-supplier=Avnet; ComponentLink2URL: https://datasheet.ciiva.com/8005/1634109-8005991.pdf?src-supplier=Element14; ComponentLink2Description: https://datasheet.ciiva.com/8005/1634109-8005991.pdf?src-supplier=Element14; ComponentLink3URL: https://datasheet.ciiva.com/23722/1496158-23722602.pdf?src-supplier=Newark; ComponentLink3Description: https://datasheet.ciiva.com/23722/1496158-23722602.pdf?src-supplier=Newark
footprint SOP65P780X200-28N
pins: 1 XTO, 2 CK, 3 DT, 4 PSEL, 5 DOUT, 6 DGND, 7 VDD, 8 D-, 9 D+, 10 VBUS, 11 ZGND, 12 AGNDL, 13 VCCL, 14 VOUTL, 15 VOUTR, 16 VCCR, 17 AGNDR, 18 VCOM, 19 PGND, 20 VCCP, 21 HOST, 22 HID0/MS, 23 HID1/MC, 24 HID2/MD, 25 TEST1, 26 TEST0, 27 ~{SSPND}, 28 XTI

## PDS1040L-13
designator D?, comment 40V 10A POWERDI5
DIODE SCHOTTKY 40V 10A POWERDI5; Manufacturer: Diodes; Manufacturer Part Number: PDS1040L-13; Element Configuration: Common Anode; Peak Reverse Current: 600uA; Peak Non-Repetitive Surge Current: 275A; Forward Voltage: 490mV; Polarity: Standard; Supplier 1: Mouser; Stock 1: 31982; Pricing 1: 1=1.15, 10=0.98, 50=0.98, 100=0.753, 1000=0.525, 10000=0.525 (USD); Mount: Surface Mount; Number of Pins: 5; Weight: 0.003386oz; Contact Plating: Matte,Tin; Min Operating Temperature: -65°C; Max Operating Temperature: 150°C; Forward Current: 10A; Max Repetitive Reverse Voltage (Vrrm): 40V; Package Quantity: 5000; Packaging: Tape and Reel; Average Rectified Current: 10A; Max Forward Surge Current (Ifsm): 275A; Termination: SMD/SMT; Voltage Rating (DC): 40V; Current Rating: 10A; Output Current: 10A; Max Reverse Voltage (DC): 40V; Length: 4.05mm; Height: 1.15mm; Width: 5.45mm; Radiation Hardening: No; REACH SVHC: No SVHC; Lead Free: Lead Free; ComponentLink1URL: https://www.diodes.com/assets/Datasheets/ds30486.pdf; ComponentLink1Description: https://www.diodes.com/assets/Datasheets/ds30486.pdf; ComponentLink2URL: http://www.mouser.com/ds/2/115/ds30486-62126.pdf; ComponentLink2Description: http://www.mouser.com/ds/2/115/ds30486-62126.pdf; ComponentLink3URL: http://www.diodes.com/datasheets/ds30486.pdf; ComponentLink3Description: http://www.diodes.com/datasheets/ds30486.pdf; ComponentLink4URL: http://www.farnell.com/datasheets/1915482.pdf; ComponentLink4Description: http://www.farnell.com/datasheets/1915482.pdf; ComponentLink5URL: http://datasheet.iiic.cc/diodes/PDS1040L-13.pdf; ComponentLink5Description: http://datasheet.iiic.cc/diodes/PDS1040L-13.pdf; Supplier Part Number 1: 621-PDS1040L-13
footprint PowerDi-5
pins: 1 K, 2 A, 3 A

## PP_SMT_ROUND_2MM
designator TEST?, comment TestPad
Probe Pad, SMT, ROUND, 2.0MM
footprint TestPad
pins: 1

## RC0603FR-071K5L
designator R?, comment 1.5K 1% 1/10W 0603
RES SMD 1.5K OHM 1% 1/10W 0603; Manufacturer: Yageo; Manufacturer Part Number: RC0603FR-071K5L; Resistance: 1.5kR; Temperature Coefficient: 100ppm/°C; Voltage Rating (DC): 50V; Power Rating: 100mW; Supplier 1: Mouser; RoHS: Yes; Stock 1: 1280962; Pricing 1: 1 = 0,10000, 10 = 0,01800, 50 = 0,01800, 100 = 0,00600, 1000 = 0,00500, 10000 = 0,00300 (USD); Case/Package: 0603; Number of Pins: 2; Case Code (Metric): 1608; Case Code (Imperial): 0603; Min Operating Temperature: -55°C; Max Operating Temperature: 155°C; Tolerance: 1%; Packaging: Tape and Reel; Composition: Thick Film; Voltage Rating: 50V; Package Quantity: 1; Number of Terminations: 2; Termination: SMD/SMT; Military Standard: Not; Max Power Dissipation: 100mW; Features: Moisture Resistant; Length: 0.063inch; Height: 0.022inch; Width: 0.031inch; Depth: 0.8mm; REACH SVHC: No SVHC; Lead Free: Lead Free; ComponentLink1URL: https://datasheet.ciiva.com/2454/pyu-r-int-thick-7-2454513.pdf?src-supplier=Digi-Key; ComponentLink1Description: https://datasheet.ciiva.com/2454/pyu-r-int-thick-7-2454513.pdf?src-supplier=Digi-Key; ComponentLink2URL: https://datasheet.ciiva.com/2454/pyu-r-int-thick-7-2454514.pdf?src-supplier=Digi-Key; ComponentLink2Description: https://datasheet.ciiva.com/2454/pyu-r-int-thick-7-2454514.pdf?src-supplier=Digi-Key; ComponentLink3URL: https://datasheet.ciiva.com/2454/pyu-r-int-thick-7-2454515.pdf?src-supplier=Digi-Key; ComponentLink3Description: https://datasheet.ciiva.com/2454/pyu-r-int-thick-7-2454515.pdf?src-supplier=Digi-Key; ComponentLink4URL: https://datasheet.ciiva.com/46440/1868787-46440895.pdf?src-supplier=Element14; ComponentLink4Description: https://datasheet.ciiva.com/46440/1868787-46440895.pdf?src-supplier=Element14; Supplier Part Number 1: 603-RC0603FR-071K5L
footprint R 0603/1608
pins: 1, 2

## RC0603FR-071K8L
designator R?, comment 1.8K 1% 1/10W 0603
RES SMD 1.8K OHM 1% 1/10W 0603; Manufacturer: Yageo; Manufacturer Part Number: RC0603FR-071K8L; Power (Watts): 0.1W, 1/10W; Temperature Coefficient: ±100ppm/°C; Supplier 1: Digi-Key; RoHS: RoHS Compliant; Category: Resistors; Stock 1: 1138265; Pricing 1: 1=0.08, 10=0.013, 100=0.005, 1000=0.00224, 2500=0.00195 (EUR); Packaging: Cut Tape (CT); Part Status: Active; Tolerance: ±1%; Composition: Thick Film; Features: Moisture Resistant; Operating Temperature: -55°C ~ 155°C; Package / Case: 0603 (1608 Metric); Supplier Device Package: 0603; Size / Dimension: 0.063" L x 0.032" W (1.60mm x 0.80mm); Height - Seated (Max): 0.022" (0.55mm); Failure Rate: -; ComponentLink1URL: http://www.yageo.com/documents/recent/PYu-RC_Group_51_RoHS_L_8.pdf; ComponentLink1Description: http://www.yageo.com/documents/recent/PYu-RC_Group_51_RoHS_L_8.pdf; Supplier Part Number 1: 311-1.80KHRCT-ND
footprint R 0603/1608
pins: 1, 2

## RC0603FR-071KL
designator R?, comment 1K 1% 1/10W 0603
RES SMD 1K OHM 1% 1/10W 0603; Manufacturer: Yageo; Manufacturer Part Number: RC0603FR-071KL; Power (Watts): 0.1W, 1/10W; Temperature Coefficient: ±100ppm/°C; Supplier 1: Digi-Key; RoHS: RoHS Compliant; Category: Resistors; Stock 1: 8170163; Pricing 1: 1=0.08, 10=0.013, 100=0.005, 1000=0.00224, 2500=0.00195 (EUR); Packaging: Cut Tape (CT); Part Status: Active; Tolerance: ±1%; Composition: Thick Film; Features: Moisture Resistant; Operating Temperature: -55°C ~ 155°C; Package / Case: 0603 (1608 Metric); Supplier Device Package: 0603; Size / Dimension: 0.063" L x 0.032" W (1.60mm x 0.80mm); Height - Seated (Max): 0.022" (0.55mm); Failure Rate: -; ComponentLink1URL: http://www.yageo.com/documents/recent/PYu-RC_Group_51_RoHS_L_8.pdf; ComponentLink1Description: http://www.yageo.com/documents/recent/PYu-RC_Group_51_RoHS_L_8.pdf; Supplier Part Number 1: 311-1.00KHRCT-ND
footprint R 0603/1608
pins: 1, 2

## RC0603FR-071ML
designator R?, comment 1M 1% 1/10W 0603
RES SMD 1M OHM 1% 1/10W 0603; Manufacturer 1: Yageo; Manufacturer Part Number 1: RC0603FR-071ML; Voltage Rating: 50V; Resistance: 1MR; Power Rating: 100mW; Temperature Coefficient: 100ppm/°C; Supplier 1: Digi-Key; Stock 1: 9751331; Pricing 1: 1=0,10000, 10=0,02400, 100=0,00970, 1000=0,00437, 2500=0,00379 (USD); RoHS: Yes; Case/Package: 0603; Number of Pins: 2; Case Code (Imperial): 0603; Case Code (Metric): 1608; Min Operating Temperature: -55°C; Max Operating Temperature: 155°C; Voltage Rating (DC): 50V; Tolerance: 1%; Packaging: Tape and Reel; Package Quantity: 5000; Termination: SMD/SMT; Composition: Thick Film; Military Standard: Not; Length: 1.6mm; Height: 0.45mm; Width: 0.8mm; Depth: 0.8mm; REACH SVHC: No SVHC; Lead Free: Lead Free; ComponentLink1URL: https://datasheet.ciiva.com/11819/0900766b80f96399-11819295.pdf?src-supplier=RSComponents; ComponentLink1Description: https://datasheet.ciiva.com/11819/0900766b80f96399-11819295.pdf?src-supplier=RSComponents; ComponentLink2URL: https://datasheet.ciiva.com/7983/443971-7983614.pdf?src-supplier=Element14; ComponentLink2Description: https://datasheet.ciiva.com/7983/443971-7983614.pdf?src-supplier=Element14; ComponentLink3URL: https://datasheet.ciiva.com/12555/rc0603-272842-12555388.pdf?src-supplier=Mouser; ComponentLink3Description: https://datasheet.ciiva.com/12555/rc0603-272842-12555388.pdf?src-supplier=Mouser; Supplier Part Number 1: 311-1.00MHRDKR-ND
footprint R 0603/1608
pins: 1, 2

## RC0603FR-072K2L
designator R?, comment 2.2K 1% 1/10W 0603
RES SMD 2.2K OHM 1% 1/10W 0603; Manufacturer 1: Yageo; Manufacturer Part Number 1: RC0603FR-072K2L; Resistance: 2.2kR; Temperature Coefficient: 100ppm/°C; Power Rating: 100mW; Voltage Rating: 50V; Supplier 1: Mouser; Stock 1: 3038477; Pricing 1: 1=0,100000, 10=0,018000, 50=0,018000, 100=0,006000, 1000=0,005000, 10000=0,003000 (USD); RoHS: Yes; Case/Package: 0603; Case Code (Imperial): 0603; Case Code (Metric): 1608; Min Operating Temperature: -55°C; Max Operating Temperature: 155°C; Tolerance: 1%; Packaging: Tape and Reel; Composition: Thick Film; Package Quantity: 1; Termination: SMD/SMT; Number of Terminations: 2; Military Standard: Not; Max Power Dissipation: 100mW; Features: Moisture Resistant; Length: 1.6mm; Height: 0.022inch; Width: 0.031inch; Depth: 0.8mm; REACH SVHC: No SVHC; Lead Free: Lead Free; ComponentLink1URL: https://datasheet.ciiva.com/46440/1868787-46440902.pdf?src-supplier=Element14; ComponentLink1Description: https://datasheet.ciiva.com/46440/1868787-46440902.pdf?src-supplier=Element14; ComponentLink2URL: https://datasheet.ciiva.com/2453/pyu-r-int-thick-7-2453943.pdf?src-supplier=Digi-Key; ComponentLink2Description: https://datasheet.ciiva.com/2453/pyu-r-int-thick-7-2453943.pdf?src-supplier=Digi-Key; ComponentLink3URL: https://datasheet.ciiva.com/7660/1868787-7660791.pdf?src-supplier=Element14; ComponentLink3Description: https://datasheet.ciiva.com/7660/1868787-7660791.pdf?src-supplier=Element14; ComponentLink4URL: https://datasheet.ciiva.com/2453/pyu-r-int-thick-7-2453944.pdf?src-supplier=Digi-Key; ComponentLink4Description: https://datasheet.ciiva.com/2453/pyu-r-int-thick-7-2453944.pdf?src-supplier=Digi-Key; ComponentLink5URL: https://datasheet.ciiva.com/2453/pyu-r-int-thick-7-2453945.pdf?src-supplier=Digi-Key; ComponentLink5Description: https://datasheet.ciiva.com/2453/pyu-r-int-thick-7-2453945.pdf?src-supplier=Digi-Key; ComponentLink6URL: https://datasheet.ciiva.com/7746/1738695-7746315.pdf?src-supplier=Element14; ComponentLink6Description: https://datasheet.ciiva.com/7746/1738695-7746315.pdf?src-supplier=Element14; ComponentLink7URL: https://datasheet.ciiva.com/7746/1738695-7746316.pdf?src-supplier=Element14; ComponentLink7Description: https://datasheet.ciiva.com/7746/1738695-7746316.pdf?src-supplier=Element14; ComponentLink8URL: https://datasheet.ciiva.com/46394/443971-46394958.pdf?src-supplier=Element14; ComponentLink8Description: https://datasheet.ciiva.com/46394/443971-46394958.pdf?src-supplier=Element14; Supplier Part Number 1: 603-RC0603FR-072K2L
footprint R 0603/1608
pins: 1, 2